# EAGLE library part ATMEGA32U2 (library balto)
Atmel 8-bit Microcontroller with 8/16/32K Bystes of ISP Flash and USB Controller. ATmega8U2, ATmega16U2, and ATmega32U2
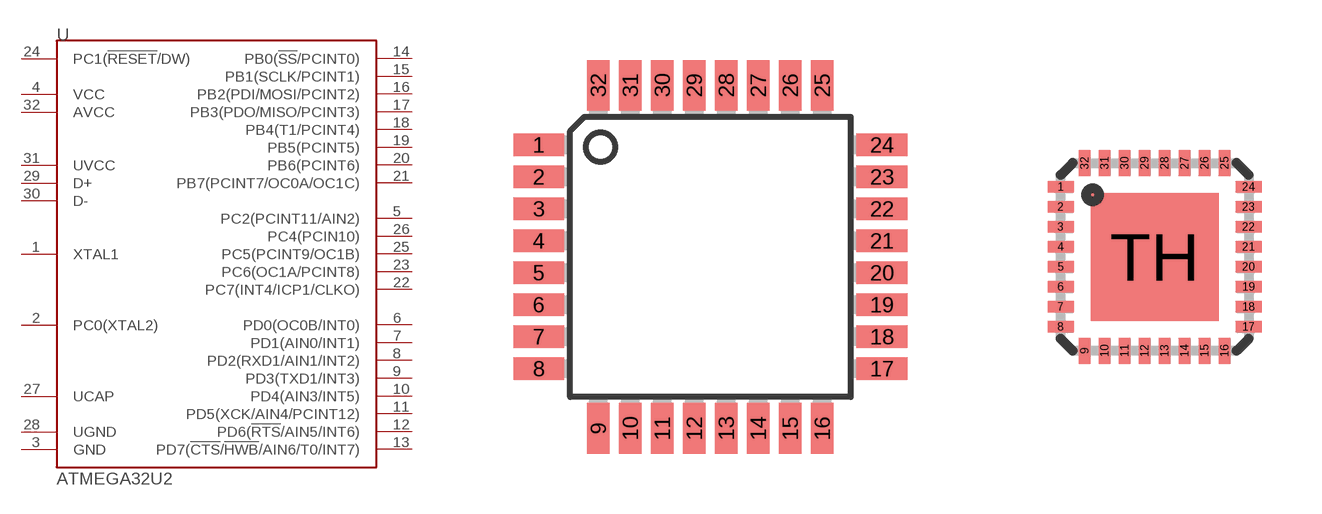
[diagram p15: symbol with the pads of TQFP32-08; footprints TQFP32-08, MLF32-TH]

Designator prefix U

## ATMEGA32U2-AU  [TQFP32-08]
1  XTAL1
2  PC0(XTAL2)
3  GND
4  VCC
5  PC2(PCINT11/AIN2)
6  PD0(OC0B/INT0)
7  PD1(AIN0/INT1)
8  PD2(RXD1/AIN1/INT2)
9  PD3(TXD1/INT3)
10  PD4(AIN3/INT5)
11  PD5(XCK/AIN4/PCINT12)
12  PD6(!RTS!/AIN5/INT6)
13  PD7(!CTS!/!HWB!/AIN6/T0/INT7)
14  PB0(!SS!/PCINT0)
15  PB1(SCLK/PCINT1)
16  PB2(PDI/MOSI/PCINT2)
17  PB3(PDO/MISO/PCINT3)
18  PB4(T1/PCINT4)
19  PB5(PCINT5)
20  PB6(PCINT6)
21  PB7(PCINT7/OC0A/OC1C)
22  PC7(INT4/ICP1/CLKO)
23  PC6(OC1A/PCINT8)
24  PC1(!RESET!/DW)
25  PC5(PCINT9/OC1B)
26  PC4(PCIN10)
27  UCAP
28  UGND
29  D+
30  D-
31  UVCC
32  AVCC

## ATMEGA32U2-MU  [MLF32-TH]
1  XTAL1
2  PC0(XTAL2)
3  GND
4  VCC
5  PC2(PCINT11/AIN2)
6  PD0(OC0B/INT0)
7  PD1(AIN0/INT1)
8  PD2(RXD1/AIN1/INT2)
9  PD3(TXD1/INT3)
10  PD4(AIN3/INT5)
11  PD5(XCK/AIN4/PCINT12)
12  PD6(!RTS!/AIN5/INT6)
13  PD7(!CTS!/!HWB!/AIN6/T0/INT7)
14  PB0(!SS!/PCINT0)
15  PB1(SCLK/PCINT1)
16  PB2(PDI/MOSI/PCINT2)
17  PB3(PDO/MISO/PCINT3)
18  PB4(T1/PCINT4)
19  PB5(PCINT5)
20  PB6(PCINT6)
21  PB7(PCINT7/OC0A/OC1C)
22  PC7(INT4/ICP1/CLKO)
23  PC6(OC1A/PCINT8)
24  PC1(!RESET!/DW)
25  PC5(PCINT9/OC1B)
26  PC4(PCIN10)
27  UCAP
28  UGND
29  D+
30  D-
31  UVCC
32  AVCC
TH  GND

## Footprint TQFP32-08 (pad centres in mm)
Thin Plasic Quad Flat Package Grid 0.8 mm
smd 1.27 x 0.559: 1 -4.293,2.8; 2 -4.293,2; 3 -4.293,1.2; 4 -4.293,0.4; 5 -4.293,-0.4; 6 -4.293,-1.2; 7 -4.293,-2; 8 -4.293,-2.8; 17 4.293,-2.8; 18 4.293,-2; 19 4.293,-1.2; 20 4.293,-0.4; 21 4.293,0.4; 22 4.293,1.2; 23 4.293,2; 24 4.293,2.8
smd 0.559 x 1.27: 9 -2.8,-4.293; 10 -2,-4.293; 11 -1.2,-4.293; 12 -0.4,-4.293; 13 0.4,-4.293; 14 1.2,-4.293; 15 2,-4.293; 16 2.8,-4.293; 25 2.8,4.293; 26 2,4.293; 27 1.2,4.293; 28 0.4,4.293; 29 -0.4,4.293; 30 -1.2,4.293; 31 -2,4.293; 32 -2.8,4.293

## Footprint MLF32-TH (pad centres in mm)
32M1-A Micro Lead Frame package (MLF)
smd 0.65 x 0.29: 1 -2.35,1.75; 2 -2.35,1.25; 3 -2.35,0.75; 4 -2.35,0.25; 5 -2.35,-0.25; 6 -2.35,-0.75; 7 -2.35,-1.25; 8 -2.35,-1.75; 17 2.35,-1.75; 18 2.35,-1.25; 19 2.35,-0.75; 20 2.35,-0.25; 21 2.35,0.25; 22 2.35,0.75; 23 2.35,1.25; 24 2.35,1.75
smd 0.29 x 0.65: 9 -1.75,-2.35; 10 -1.25,-2.35; 11 -0.75,-2.35; 12 -0.25,-2.35; 13 0.25,-2.35; 14 0.75,-2.35; 15 1.25,-2.35; 16 1.75,-2.35; 25 1.75,2.35; 26 1.25,2.35; 27 0.75,2.35; 28 0.25,2.35; 29 -0.25,2.35; 30 -0.75,2.35; 31 -1.25,2.35; 32 -1.75,2.35
smd 3.2 x 3.2: TH 0,0